# EAGLE library part AD9833 (library analog-devices)
Programmable Waveform Generator Low Power 20 mW 2.3 V to 5.5 V
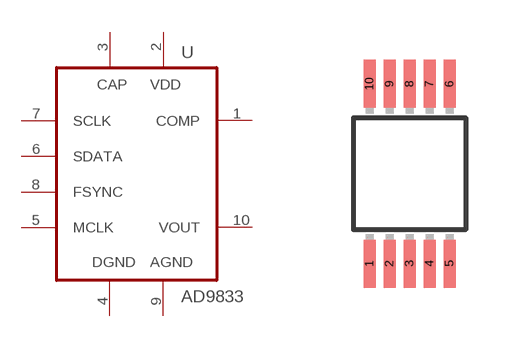
[diagram p29: symbol with the pads of MSOP10; footprint MSOP10]

Designator prefix U

## AD9833BRM (DIGIKEY: AD9833BRMZ-ND)  [MSOP10]
1  COMP  pas
2  VDD  pwr
3  CAP  pas
4  DGND  pwr
5  MCLK  in
6  SDATA  in
7  SCLK  in
8  FSYNC  in
9  AGND  pwr
10  VOUT  out

## Footprint MSOP10 (pad centres in mm)
MSOP-10
smd 0.3 x 1.2: 1 -1,-2.25; 2 -0.5,-2.25; 3 0,-2.25; 4 0.5,-2.25; 5 1,-2.25; 6 1,2.25; 7 0.5,2.25; 8 0,2.25; 9 -0.5,2.25; 10 -1,2.25